# Altium schematic symbol library BMP180.SchLib: 1 symbol
Pins are listed as number, name and electrical type; pins without a type are passive.

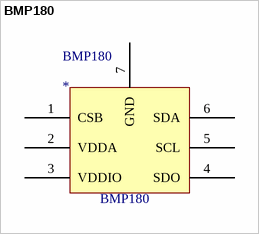
[diagram p0: symbol BMP180]

## BMP180
designator BMP180
footprint QFN150P350X350X90-6N (QFN, 6-Leads, Body 3.5x3.5mm (max), Pitch 1.50mm, IPC Medium Density)
pins: 1 CSB, 2 VDDA, 3 VDDIO, 4 SDO, 5 SCL, 6 SDA, 7 GND